# Altium footprint library Transistors.PcbLib: 4 footprints
Each footprint in its own frame and in the unit in brackets; x right, y up, seen from the top. Pads: shape width x height; smd on the part's side, far side on the other; paste and mask are expansions set on the pad; w line width, h text height; cw(c..) or ccw(c..) is an arc to the next point about the centre after c.
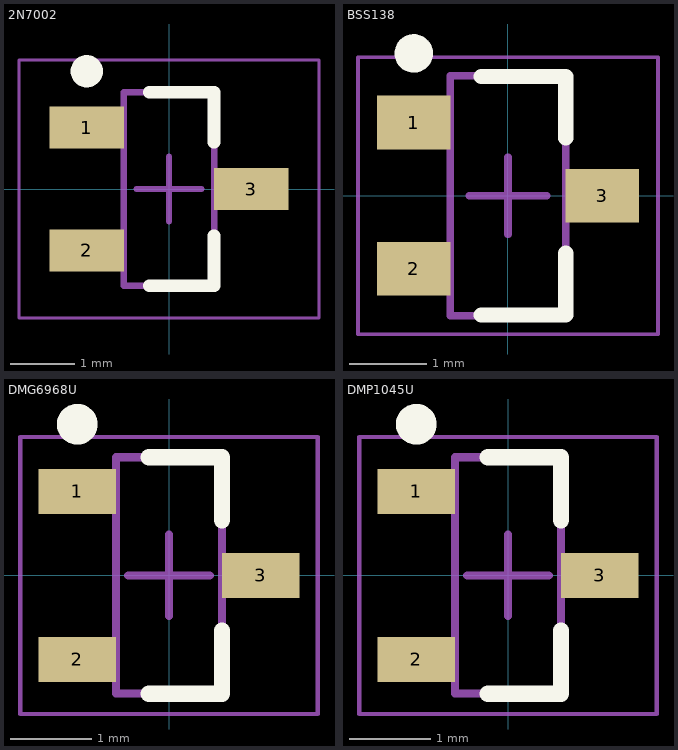
[diagram p0: the footprints below, top view; thin cyan lines are the x and y axes]

## 2N7002 [mm] "SOT23, 3-Leads, Body 2,92x2,40mm, Pitch 0,95mm, IPC Medium Density"
height 1.2
pads (3):
  rect 1.15x0.65 smd: 1(-1.275,0.95) 2(-1.275,-0.95) 3(1.275,0)
Top Overlay:
  circle w0.25: c-1.275,1.825 r0.125
  lines w0.2: -0.3,-1.5 0.7,-1.5 0.7,-0.725 ; -0.3,1.5 0.7,1.5 0.7,0.725
Assembly Top:
  lines w0.1: -0.7,-1.5 -0.7,1.5 0.7,1.5 0.7,-1.5 -0.7,-1.5
Courtyard Top:
  lines w0.05: -2.325,-2 -2.325,2 2.325,2 2.325,-2 -2.325,-2
  lines w0.1: -0.5,0 0.5,0 ; 0,-0.5 0,0.5
3D body "SOT95P240X120-3M.step": height 1.2, standoff 0, extent -1.25,-1.5 1.25,1.5

## BSS138 [mm] "SOT23, 3-Leads, Body 2,92x2,40mm, Pitch 0,95mm, IPC Medium Density"
height 1.2
pads (3):
  rect 0.95x0.7 smd: 1(-1.225,0.95) 2(-1.225,-0.95) 3(1.225,0)
Top Overlay:
  circle w0.25: c-1.225,1.85 r0.125
  lines w0.2: -0.35,-1.55 0.75,-1.55 0.75,-0.75 ; -0.35,1.55 0.75,1.55 0.75,0.75
Assembly Top:
  lines w0.1: -0.75,-1.56 -0.75,1.56 0.75,1.56 0.75,-1.56 -0.75,-1.56
Courtyard Top:
  lines w0.05: -1.95,-1.8 -1.95,1.8 1.95,1.8 1.95,-1.8 -1.95,-1.8
  lines w0.1: -0.5,0 0.5,0 ; 0,-0.5 0,0.5
3D body "SOT95P240X120-3N.step": height 1.2, standoff 0, extent -1.35,-1.56 1.35,1.56

## DMG6968U [mm] "SOT23, 3-Leads, Body 2.85x2.35mm, Pitch 1.03mm, IPC Medium Density"
height 1.03
pads (3):
  rect 0.95x0.55 smd: 1(-1.125,1.03) 2(-1.125,-1.03) 3(1.125,0)
Top Overlay:
  circle w0.25: c-1.125,1.855 r0.125
  lines w0.2: -0.25,-1.45 0.65,-1.45 0.65,-0.675 ; -0.25,1.45 0.65,1.45 0.65,0.675
Assembly Top:
  lines w0.1: -0.65,-1.45 -0.65,1.45 0.65,1.45 0.65,-1.45 -0.65,-1.45
Courtyard Top:
  lines w0.05: -1.825,-1.7 -1.825,1.7 1.825,1.7 1.825,-1.7 -1.825,-1.7
  lines w0.1: -0.5,0 0.5,0 ; 0,-0.5 0,0.5
3D body "SOT103P235X102-3N.step": height 1.02, standoff 0, extent -1.2,-1.45 1.2,1.45

## DMP1045U [mm] "SOT23, 3-Leads, Body 2.85x2.35mm, Pitch 1.03mm, IPC Medium Density"
height 1.03
pads (3):
  rect 0.95x0.55 smd: 1(-1.125,1.03) 2(-1.125,-1.03) 3(1.125,0)
Top Overlay:
  circle w0.25: c-1.125,1.855 r0.125
  lines w0.2: -0.25,-1.45 0.65,-1.45 0.65,-0.675 ; -0.25,1.45 0.65,1.45 0.65,0.675
Assembly Top:
  lines w0.1: -0.65,-1.45 -0.65,1.45 0.65,1.45 0.65,-1.45 -0.65,-1.45
Courtyard Top:
  lines w0.05: -1.825,-1.7 -1.825,1.7 1.825,1.7 1.825,-1.7 -1.825,-1.7
  lines w0.1: -0.5,0 0.5,0 ; 0,-0.5 0,0.5
3D body "SOT103P235X102-3N.step": height 1.02, standoff 0, extent -1.2,-1.45 1.2,1.45